# EAGLE library part HD-BQ-M31DRD (library LED displeje)
LED displej 4 mist
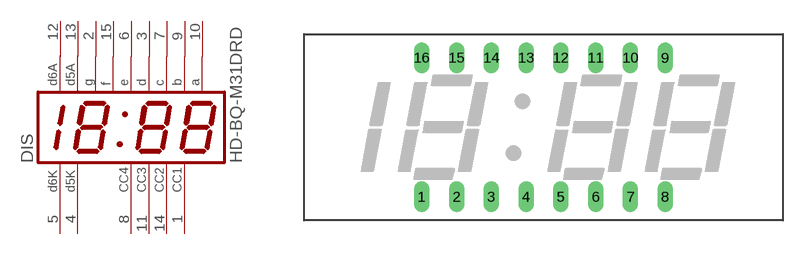
[diagram p6: symbol with the pads of HDBQM31; footprint HDBQM31]

Designator prefix DIS

## HD-BQ-M31DRD  [HDBQM31]
1  CC1  pas
2  G  pas
3  D  pas
4  D5K  pas
5  D6K  pas
6  E  pas
7  C  pas
8  CC4  pas
9  B  pas
10  A  pas
11  CC3  pas
12  D6A  pas
13  D5A  pas
14  CC2  pas
15  F  pas

## Footprint HDBQM31 (pad centres in mm)
drill 0.61 long: 1 -8.89,-5.08; 2 -6.35,-5.08; 3 -3.81,-5.08; 4 -1.27,-5.08; 5 1.27,-5.08; 6 3.81,-5.08; 7 6.35,-5.08; 8 8.89,-5.08; 9 8.89,5.08; 10 6.35,5.08; 11 3.81,5.08; 12 1.27,5.08; 13 -1.27,5.08; 14 -3.81,5.08; 15 -6.35,5.08; 16 -8.89,5.08